# Altium schematic symbol library WatertronTransformer.Schlib: 1 symbol
Pins are listed as number, name and electrical type; pins without a type are passive.

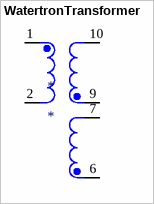
[diagram p0: symbol WatertronTransformer]

## WatertronTransformer
designator *
pins: 1 PRIMARY1, 2 3, 6, 7, 9, 10